# EAGLE library part AX88178 (library WakamelibGOOD)
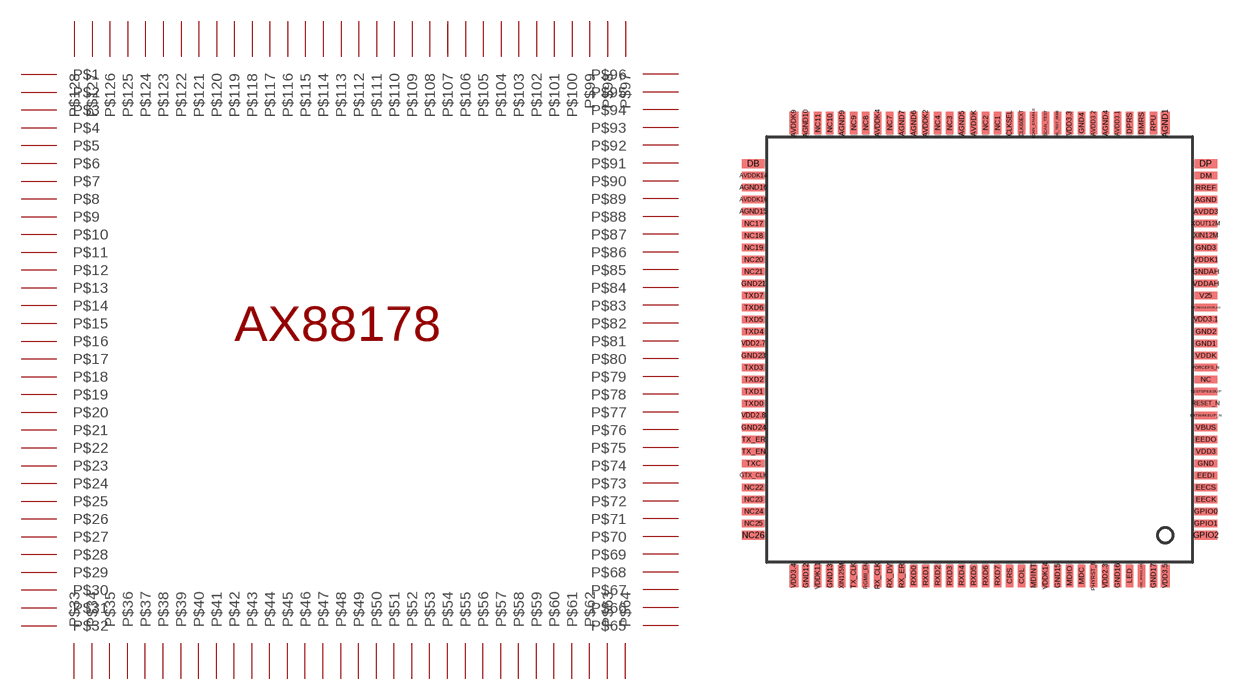
[diagram p5: symbol with the pads of QFP128_SOT320-2; footprint QFP128_SOT320-2]

Designator prefix -

## AX88178  [QFP128_SOT320-2]
AGND  P$29
AGND1  P$33
AGND4  P$38
AGND5  P$50
AGND6  P$54
AGND7  P$55
AGND9  P$60
AGND10  P$63
AGND15  P$67
AGND16  P$69
AVDD3  P$28
AVDD3.1  P$37
AVDD3.2  P$39
AVDDK  P$49
AVDDK2  P$53
AVDDK4  P$57
AVDDK9  P$64
AVDDK14  P$66
AVDDK16  P$68
CLK60EXT  P$45
CLKSEL  P$46
COL  P$116
CRS  P$115
DB  P$65
DM  P$31
DMRS  P$35
DP  P$32
DPRS  P$36
EECK  P$4
EECS  P$5
EEDI  P$6
EEDO  P$9
EXTWAKEUP_N  P$11
FORCEFS_N  P$15
GND  P$7
GND1  P$17
GND2  P$18
GND3  P$25
GND4  P$40
GND12  P$74
GND13  P$81
GND15  P$87
GND16  P$98
GND17  P$100
GND21  P$75
GND23  P$124
GND24  P$127
GNDAH  P$23
GPIO0  P$3
GPIO1  P$2
GPIO2  P$1
GTX_CLK  P$91
HS_TEST_MODE  P$42
INT_REGULATOR_EN  P$20
LED  P$125
MDC  P$121
MDINT  P$117
MDIO  P$120
NC  P$47
NC1  P$14
NC2  P$48
NC3  P$51
NC4  P$52
NC7  P$58
NC8  P$59
NC9  P$61
NC10  P$56
NC11  P$62
NC17  P$71
NC18  P$72
NC19  P$92
NC20  P$93
NC21  P$94
NC22  P$73
NC23  P$96
NC24  P$70
NC25  P$95
NC26  P$119
PHYRST_N  P$122
RESET_N  P$12
RGMII_EN  P$103
RPU  P$34
RREF  P$30
RX_CLK  P$104
RX_DV  P$105
RX_ER  P$106
RXD0  P$107
RXD1  P$108
RXD2  P$109
RXD3  P$110
RXD4  P$111
RXD5  P$112
RXD6  P$113
RXD7  P$114
SCAN_ENABLE  P$44
SCAN_TEST  P$43
TESTSPEEDUP  P$13
TX_CLK  P$102
TX_EN  P$89
TX_ER  P$88
TXC  P$90
TXD0  P$85
TXD1  P$84
TXD2  P$83
TXD3  P$82
TXD4  P$79
TXD5  P$78
TXD6  P$77
TXD7  P$76
USB_SPEED_LED  P$126
V25  P$21
VBUS  P$10
VDD2.3  P$123
VDD2.7  P$80
VDD2.8  P$86
VDD3  P$8
VDD3.1  P$19
VDD3.3  P$41
VDD3.4  P$97
VDD3.5  P$128
VDDAH  P$22
VDDK  P$16
VDDK1  P$24
VDDK11  P$99
VDDK14  P$118
XIN12M  P$101
XIN125M  P$26
XOUT12M  P$27

## Footprint QFP128_SOT320-2 (pad centres in mm)
Plastic Quad Flat Package SOT320-2 120 leads source: http://www.semiconductors.philips.com/ LQFP-MSQFP-QFP-SQFP-TQFP-REFLOW.pdf
smd 1.5 x 0.5: AGND -36.97,79.85; AGND15 -67.17,79.05; AGND16 -67.17,80.65; AVDD3 -36.97,79.05; AVDDK14 -67.17,81.45; AVDDK16 -67.17,79.85; DM -36.97,81.45; EECK -36.97,59.85; EECS -36.97,60.65; EEDI -36.97,61.45; EEDO -36.97,63.85; EXTWAKEUP_N -36.97,65.45; FORCEFS_N -36.97,68.65; GND -36.97,62.25; GND1 -36.97,70.25; GND2 -36.97,71.05; GND3 -36.97,76.65; GND21 -67.17,74.25; GND23 -67.17,69.45; GND24 -67.17,64.65; GNDAH -36.97,75.05; GPIO0 -36.97,59.05; GPIO1 -36.97,58.25; GTX_CLK -67.17,61.45; INT_REGULATOR_EN -36.97,72.65; NC -36.97,67.85; NC17 -67.17,78.25; NC18 -67.17,77.45; NC19 -67.17,76.65; NC20 -67.17,75.85; NC21 -67.17,75.05; NC22 -67.17,60.65; NC23 -67.17,59.85; NC24 -67.17,59.05; NC25 -67.17,58.25; RESET_N -36.97,66.25; RREF -36.97,80.65; TESTSPEEDUP -36.97,67.05; TX_EN -67.17,63.05; TX_ER -67.17,63.85; TXC -67.17,62.25; TXD0 -67.17,66.25; TXD1 -67.17,67.05; TXD2 -67.17,67.85; TXD3 -67.17,68.65; TXD4 -67.17,71.05; TXD5 -67.17,71.85; TXD6 -67.17,72.65; TXD7 -67.17,73.45; V25 -36.97,73.45; VBUS -36.97,64.65; VDD2.7 -67.17,70.25; VDD2.8 -67.17,65.45; VDD3 -36.97,63.05; VDD3.1 -36.97,71.85; VDDAH -36.97,74.25; VDDK -36.97,69.45; VDDK1 -36.97,75.85; XIN12M -36.97,77.45; XOUT12M -36.97,78.25
smd 0.6 x 1.5: AGND1 -39.67,84.95; AVDDK9 -64.47,84.95; VDD3.4 -64.47,54.75; VDD3.5 -39.67,54.75
smd 0.5 x 1.5: AGND4 -43.67,84.95; AGND5 -53.27,84.95; AGND6 -56.47,84.95; AGND7 -57.27,84.95; AGND9 -61.27,84.95; AGND10 -63.67,84.95; AVDD3.1 -42.87,84.95; AVDD3.2 -44.47,84.95; AVDDK -52.47,84.95; AVDDK2 -55.67,84.95; AVDDK4 -58.87,84.95; CLK60EXT -49.27,84.95; CLKSEL -50.07,84.95; COL -49.27,54.75; CRS -50.07,54.75; DMRS -41.27,84.95; DPRS -42.07,84.95; GND4 -45.27,84.95; GND12 -63.67,54.75; GND13 -62.07,54.75; GND15 -46.87,54.75; GND16 -42.87,54.75; GND17 -40.47,54.75; HS_TEST_MODE -46.87,84.95; LED -42.07,54.75; MDC -45.27,54.75; MDINT -48.47,54.75; MDIO -46.07,54.75; NC1 -50.87,84.95; NC2 -51.67,84.95; NC3 -54.07,84.95; NC4 -54.87,84.95; NC7 -58.07,84.95; NC8 -59.67,84.95; NC9 -60.47,84.95; NC10 -62.07,84.95; NC11 -62.87,84.95; PHYRST_N -44.47,54.75; RGMII_EN -59.67,54.75; RPU -40.47,84.95; RX_CLK -58.87,54.75; RX_DV -58.07,54.75; RX_ER -57.27,54.75; RXD0 -56.47,54.75; RXD1 -55.67,54.75; RXD2 -54.87,54.75; RXD3 -54.07,54.75; RXD4 -53.27,54.75; RXD5 -52.47,54.75; RXD6 -51.67,54.75; RXD7 -50.87,54.75; SCAN_ENABLE -48.47,84.95; SCAN_TEST -47.67,84.95; TX_CLK -60.47,54.75; USB_SPEED_LED -41.27,54.75; VDD2.3 -43.67,54.75; VDD3.3 -46.07,84.95; VDDK11 -62.87,54.75; VDDK14 -47.67,54.75; XIN125M -61.27,54.75
smd 1.5 x 0.6: DB -67.17,82.25; DP -36.97,82.25; GPIO2 -36.97,57.45; NC26 -67.17,57.45